# Altium footprint library 8channel.PcbLib: 84 footprints (part 4 of 6)
Each footprint in its own frame and in the unit in brackets; x right, y up, seen from the top. Pads: shape width x height; smd on the part's side, far side on the other; paste and mask are expansions set on the pad; w line width, h text height; cw(c..) or ccw(c..) is an arc to the next point about the centre after c.
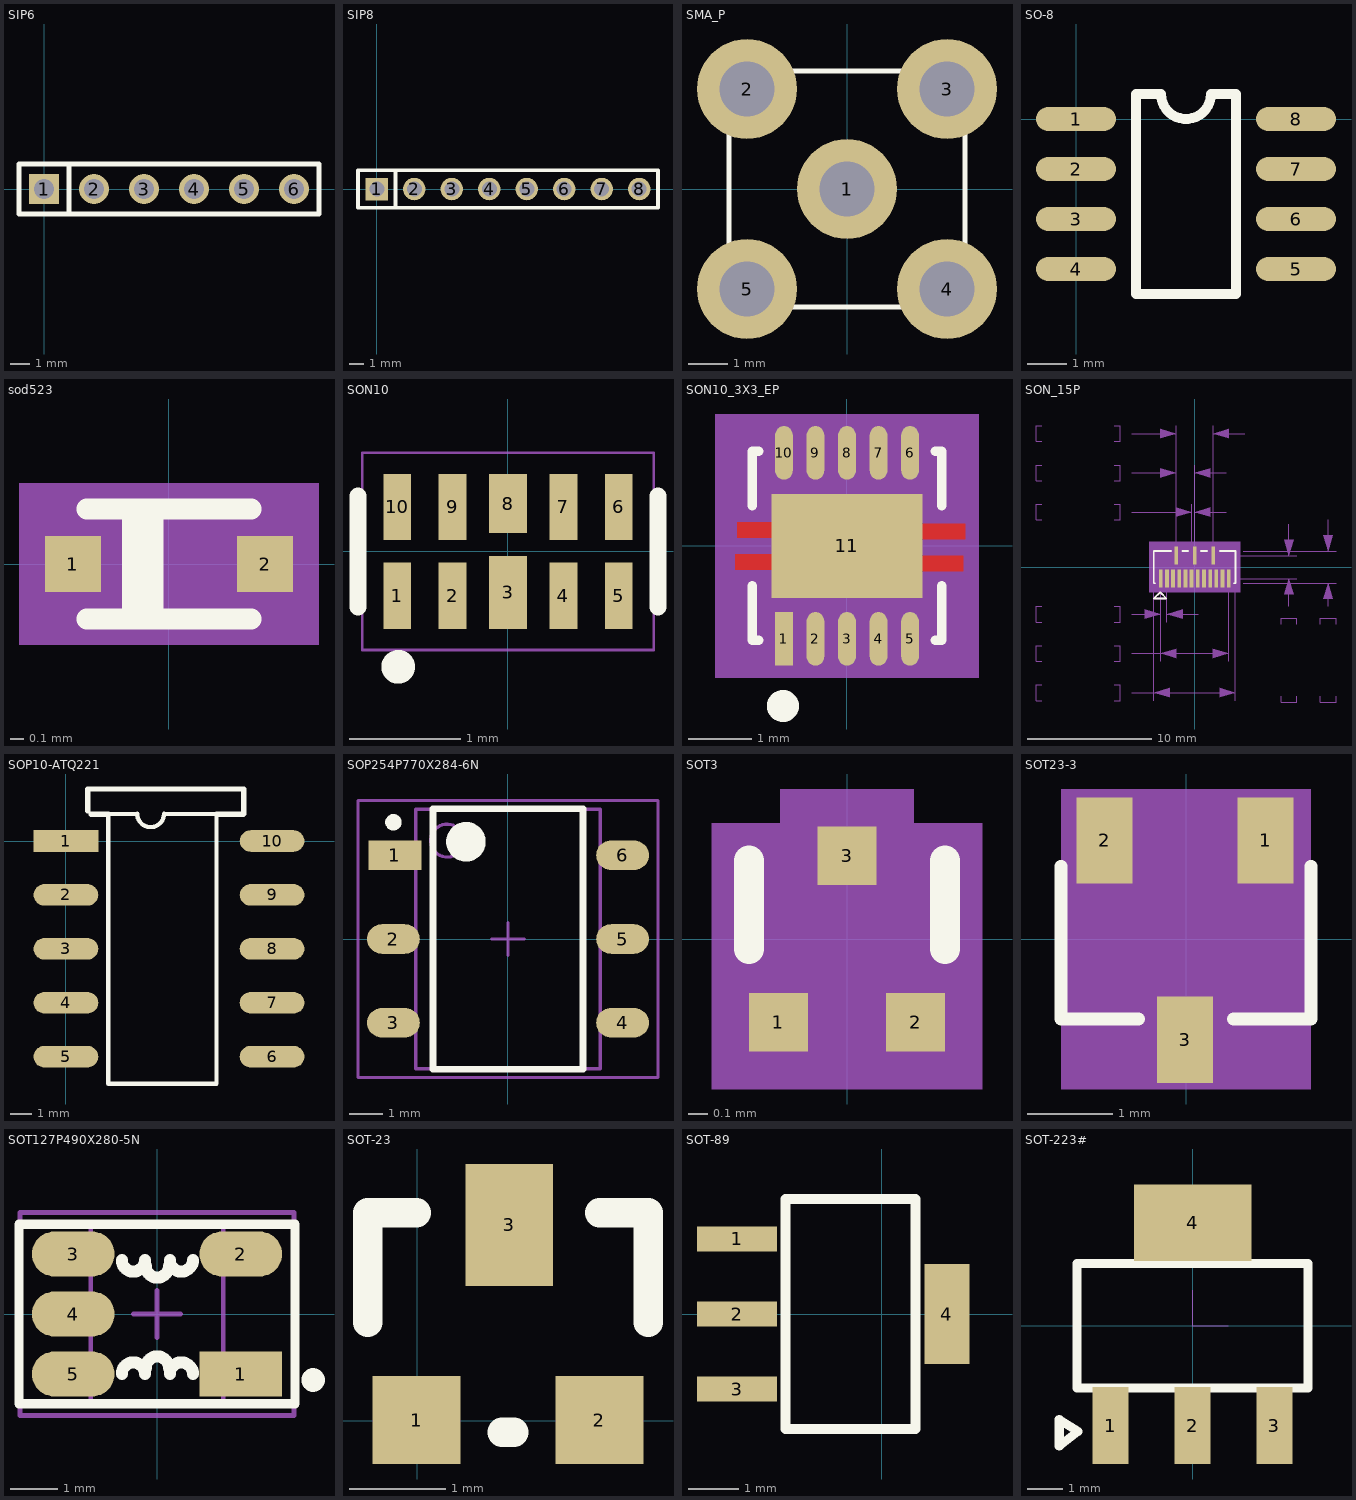
[diagram p3: the footprints below, top view; thin cyan lines are the x and y axes]

## SIP6 [mil] "pitch=2.54"
pads (6):
  rect 60x60 hole 40: 1(0,0)
  round 60 hole 40: 2(100,0) 3(200,0) 4(300,0) 5(400,0) 6(500,0)
Top Overlay:
  lines w10: 50,-50 50,50 ; -50,-50 550,-50 550,50 -50,50 -50,-50

## SIP8 [mil] "pitch=2.54"
pads (8):
  rect 60x60 hole 40: 1(0,0)
  round 60 hole 40: 2(100,0) 3(200,0) 4(300,0) 5(400,0) 6(500,0) 7(600,0) 8(700,0)
Top Overlay:
  lines w10: 50,-50 50,50 ; -50,-50 -50,50 750,50 750,-50 -50,-50

## SMA_P [mm]
pads (5):
  round 2.54 hole 1.4: 1(0,0) 2(-2.54,2.54) 3(2.54,2.54) 4(2.54,-2.54) 5(-2.54,-2.54)
Top Overlay:
  lines w0.127: -3,-3 -3,3 3,3 3,-3 -3,-3
Mechanical 9:
  text "1" at -0.254,0 h0.76
  text "3" at 2.286,2.54 h0.76
  text "2" at -2.794,2.54 h0.76
  text "4" at 2.286,-2.54 h0.76
  text "5" at -2.794,-2.54 h0.76

## SO-8 [mil]
height 230
pads (8):
  oval 80x24 smd: 1(0,0) 2(0,-50) 3(0,-100) 4(0,-150) 5(220,-150) 6(220,-100) 7(220,-50) 8(220,0)
Top Overlay:
  lines w10: 60,-175 160,-175 160,25 135,25 cw(c110,25) 85,25 60,25 60,-175

## sod523 [mil] "BAS16XV2T1G,Pin1-Negative"
height 39.37
pads (2):
  rect 16x16 smd: 1(-27.56,0) 2(27.56,0)
Top Overlay:
  lines w6: -23.62,-15.75 23.62,-15.75 ; -23.62,15.75 23.62,15.75 ; -10.56,-15.75 -10.56,15.75 ; -4.56,-15.75 -4.56,15.75
Mechanical 10:
  text "2" at 49,-2 h30
  text "1" at -27.56,10 h30
Mechanical 11:
  text ".Designator" at 0,0 h30
Mechanical 12:
  region: -43.06,-23.25 43.06,-23.25 43.06,23.25 -43.06,23.25
3D body: height 150, standoff 0, extent -43.06,-23.25 43.06,23.25

## SON10 [mm] "SON10"
pads (10):
  rect 0.25x0.598 smd: 1(-1,-0.401) 2(-0.5,-0.401) 4(0.5,-0.401) 5(1,-0.401) 6(1,0.401) 7(0.5,0.401) 9(-0.5,0.401) 10(-1,0.401)
  rect 0.344x0.661 smd: 3(0,-0.37)
  rect 0.344x0.536 smd: 8(0,0.432)
Top Overlay:
  circle w0.152: c-0.991,-1.041 r0.076
  lines w0.152: -1.354,-0.5 -1.354,0.5 ; 1.354,-0.5 1.354,0.5
Mechanical 10:
  text "8" at 0,0.686 h0.76
  text "3" at 0,-0.116 h0.76
  text "7" at 0.5,0.655 h0.76
  text "4" at 0.5,-0.147 h0.76
  text "10" at -1,0.909 h0.76
  text "1" at -1,-0.147 h0.76
  text "9" at -0.5,0.655 h0.76
  text "2" at -0.5,-0.147 h0.76
  text "6" at 1,0.655 h0.76
  text "5" at 1,-0.147 h0.76
Mechanical 12:
  lines w0.025: -1.315,-0.891 1.316,-0.891 1.316,0.891 -1.315,0.891 -1.315,-0.891

## SON10_3X3_EP [mm] "SON10_3X3"
pads (11):
  rect 0.28x0.85 smd: 1(-1,-1.475)
  oval 0.28x0.85 smd: 2(-0.5,-1.475) 3(0,-1.475) 4(0.5,-1.475) 5(1,-1.475) 6(1,1.475) 7(0.5,1.475) 8(0,1.475) 9(-0.5,1.475) 10(-1,1.475)
  rect 2.4x1.65 smd: 11(0,0)
Top Layer:
  region: 1.88,0.356 1.021,0.356 1.021,0.102 1.88,0.102
  region: 1.85,-0.152 0.991,-0.152 0.991,-0.406 1.85,-0.406
  region: -0.919,-0.127 -1.778,-0.127 -1.778,-0.382 -0.919,-0.382
  region: -0.889,0.381 -1.748,0.381 -1.748,0.126 -0.889,0.126
Top Overlay:
  circle w0.254: c-1.016,-2.54 r0.127
  lines w0.152: -1.5,-0.635 -1.5,-1.5 -1.397,-1.5 ; -1.5,0.635 -1.5,1.5 -1.397,1.5 ; 1.397,-1.5 1.5,-1.5 1.5,-0.635 ; 1.397,1.5 1.5,1.5 1.5,0.635
Top Paste:
  rectangle: 1.041,0.102 1.905,0.381
  rectangle: 1.037,-0.406 1.9,-0.127
  rectangle: -1.783,-0.382 -0.919,-0.102
  rectangle: -1.753,0.126 -0.889,0.406
Top Solder:
  rectangle: 0.991,0.026 2.007,0.433
  rectangle: 0.991,-0.456 2.007,-0.05
  rectangle: -1.905,-0.432 -0.889,-0.025
  rectangle: -1.905,0.051 -0.889,0.457
Mechanical 10:
  text "10" at -1,1.983 h0.76
  text "9" at -0.5,1.729 h0.76
  text "4" at 0.5,-1.221 h0.76
  text "8" at 0,1.729 h0.76
  text "3" at 0,-1.221 h0.76
  text "7" at 0.5,1.729 h0.76
  text "2" at -0.5,-1.221 h0.76
  text "1" at -1,-1.221 h0.76
  text "5" at 1,-1.221 h0.76
  text "6" at 1,1.729 h0.76
  text "11" at 0,0.508 h0.76
Mechanical 12:
  region: -2.09,2.09 -2.09,-2.09 2.09,-2.09 2.09,2.09
3D body: height 3.81, standoff 0, extent -2.032,-2.09 2.149,2.09

## SON_15P [mil] "SON_15P"
pads (15):
  rect 12x57 smd: 1(-108.27,-36.42) 2(-88.58,-36.42) 3(-68.9,-36.42) 4(-49.21,-36.42) 5(-29.53,-36.42) 6(-9.84,-36.42) 7(9.84,-36.42) 8(29.53,-36.42) 9(49.21,-36.42) 10(68.9,-36.42) 11(88.58,-36.42) 12(108.27,-36.42) 13(59.06,36.42) 14(0,36.42) 15(-59.06,36.42)
Top Overlay:
  lines w5: -125,-51.18 -129.92,-51.18 -129.92,51.18 -75,51.18 ; -40,51.18 -20,51.18 ; 20,51.18 40,51.18 ; 80,51.18 129.92,51.18 129.92,-51.18 125,-51.18 ; -130,-100 -90,-100 -110,-80 -130,-100
Mechanical 10:
  text "6" at -9.84,-46.42 h30
  text "4" at -49.21,-46.42 h30
  text "3" at -68.9,-46.42 h30
  text "1" at -108.27,-46.42 h30
  text "9" at 49.21,-46.42 h30
  text "7" at 9.84,-46.42 h30
  text "12" at 108.27,-56.42 h30
  text "10" at 68.9,-56.42 h30
  text "14" at 0,16.42 h30
  text "15" at -59.06,16.42 h30
  text "13" at 59.06,16.42 h30
  text "2" at -88.58,-46.42 h30
  text "5" at -29.53,-46.42 h30
  text "8" at 29.53,-46.42 h30
  text "11" at 88.58,-56.42 h30
Mechanical 12:
  region: -145,80 145,80 145,-80 -145,-80
Mechanical 13:
  lines w5: -130,-100 -90,-100 -110,-80 -130,-100 ; -129.92,-51.18 129.92,-51.18 129.92,51.18 -129.92,51.18 -129.92,-51.18
Mechanical 16:
  pour cut-out: -109.06,410 -59.06,425 -109.06,440
  pour cut-out: 109.06,440 59.06,425 109.06,410
  pour cut-out: -109.06,285 -59.06,300 -109.06,315
  pour cut-out: 50,315 0,300 50,285
  pour cut-out: -59.84,160 -9.84,175 -59.84,190
  pour cut-out: 50,190 0,175 50,160
  pour cut-out: -79.92,-385 -129.92,-400 -79.92,-415
  pour cut-out: 79.92,-415 129.92,-400 79.92,-385
  pour cut-out: -58.27,-260 -108.27,-275 -58.27,-290
  pour cut-out: 58.27,-290 108.27,-275 58.27,-260
  pour cut-out: -158.27,-165 -108.27,-150 -158.27,-135
  pour cut-out: -38.58,-135 -88.58,-150 -38.58,-165
  pour cut-out: 440,-101.18 425,-51.18 410,-101.18
  pour cut-out: 410,101.18 425,51.18 440,101.18
  pour cut-out: 315,-86.42 300,-36.42 285,-86.42
  pour cut-out: 285,86.42 300,36.42 315,86.42
  lines w1: -486.22,-425 -505.31,-425 -505.31,-375 -486.22,-375 ; -486.22,-300 -505.31,-300 -505.31,-250 -486.22,-250 ; -486.22,-175 -505.31,-175 -505.31,-125 -486.22,-125 ; -486.22,150 -505.31,150 -505.31,200 -486.22,200 ; -486.22,275 -505.31,275 -505.31,325 -486.22,325 ; -486.22,400 -505.31,400 -505.31,450 -486.22,450 ; -256.31,-425 -237.22,-425 -237.22,-375 -256.31,-375 ; -256.31,-300 -237.22,-300 -237.22,-250 -256.31,-250 ; -256.31,-175 -237.22,-175 -237.22,-125 -256.31,-125 ; -256.31,150 -237.22,150 -237.22,200 -256.31,200 ; -256.31,275 -237.22,275 -237.22,325 -256.31,325 ; -256.31,400 -237.22,400 -237.22,450 -256.31,450 ; -199.72,-400 -129.92,-400 129.92,-400 ; -199.72,-275 -108.27,-275 108.27,-275 ; -199.72,-150 -108.27,-150 ; -199.72,175 -9.84,175 ; -199.72,300 -59.06,300 ; -199.72,425 -59.06,425 ; -129.92,-425 -129.92,-76.18 ; -108.27,-300 -108.27,-61.42 -108.27,-175 ; -88.58,-175 -88.58,-61.42 ; -88.58,-150 11.42,-150 ; -59.06,325 -59.06,61.42 -59.06,450 ; -9.84,-11.42 -9.84,200 ; 0,175 100,175 ; 0,200 0,61.42 0,325 ; 0,300 100,300 ; 59.06,61.42 59.06,450 ; 59.06,425 159.06,425 ; 84.06,36.42 325,36.42 ; 108.27,-300 108.27,-61.42 ; 129.92,-425 129.92,-76.18 ; 133.27,-36.42 325,-36.42 ; 154.92,-51.18 450,-51.18 ; 154.92,51.18 450,51.18 ; 275,-411.22 275,-430.31 325,-430.31 325,-411.22 ; 275,-181.31 275,-162.22 325,-162.22 325,-181.31 ; 300,-124.72 300,-36.42 ; 300,36.42 300,136.42 ; 400,-411.22 400,-430.31 450,-430.31 450,-411.22 ; 400,-181.31 400,-162.22 450,-162.22 450,-181.31 ; 425,-124.72 425,-51.18 ; 425,51.18 425,151.18
  text "3.00" at -467.12,400 h30
  text ".118" at -760,395 h30
  text "1.50" at -467.12,275 h30
  text ".059" at -760.82,275 h30
  text "0.25" at -467.12,150 h30
  text ".010" at -760.82,150 h30
  text "6.60" at -467.12,-425 h30
  text ".260" at -760.82,-425 h30
  text "5.50" at -467.12,-300 h30
  text "0.50" at -467.12,-175 h30
  text "2.60" at 450,-392.12 h30
  text ".102" at 370,-695 h30
  text ".073" at 390,-680 h30
  text "Created by: MN 8/20/10" at -476.45,733.33 h30
3D body: height 150, standoff 0, extent -145,-80 145,80

## SOP10-ATQ221 [mm]
pads (10):
  rect 3x1 smd: 1(0,0)
  oval 3x1 smd: 2(0,-2.5) 3(0,-5) 4(0,-7.5) 5(0,-10) 6(9.56,-10) 7(9.56,-7.5) 8(9.56,-5) 9(9.56,-2.5) 10(9.56,0)
Top Overlay:
  lines w0.2: 3.302,1.25 1.96,1.25 1.96,-11.25 6.985,-11.25 6.985,1.25 4.572,1.25 ; 3.302,1.27 ccw(c3.927,1.27) 4.552,1.27
  lines w0.254: 1.016,1.397 1.016,2.194 1.016,2.413 8.255,2.413 8.255,1.27 8.235,1.25 6.985,1.25 ; 1.163,1.25 1.96,1.25

## SOP254P770X284-6N [mm] "SOP, 6-Leads, Body 7.9x5.6mm (max), Pitch 2.54mm, IPC Medium Density"
height 2.84
pads (6):
  rect 1.6x0.9 smd: 1(-3.429,2.54)
  oval 1.6x0.9 smd: 2(-3.475,0) 3(-3.475,-2.54) 4(3.475,-2.54) 5(3.475,0) 6(3.475,2.54)
Top Overlay:
  circle w0.25: c-3.475,3.54 r0.125
  circle w0.6: c-1.275,2.95 r0.3
  lines w0.2: -2.275,-3.95 -2.275,3.95 2.275,3.95 2.275,-3.95 -2.275,-3.95
Mechanical 13:
  circle w0.1: c-1.845,2.985 r0.5
  lines w0.1: -2.795,-3.935 -2.795,3.935 2.795,3.935 2.795,-3.935 -2.795,-3.935
Mechanical 15:
  lines w0.1: -0.5,0 0.5,0 ; 0,-0.5 0,0.5 ; -4.55,-4.2 -4.55,4.2 4.55,4.2 4.55,-4.2 -4.55,-4.2
3D body: height 2.84, standoff 0.1, extent -2.795,-3.935 2.795,3.935

## SOT3 [mm] "SOT3"
pads (3):
  rect 0.3x0.3 smd: 1(-0.35,-0.425) 2(0.35,-0.425) 3(0,0.425)
Top Overlay:
  lines w0.152: -0.5,-0.051 -0.5,0.4 ; 0.5,-0.051 0.5,0.4
Mechanical 10:
  text "3" at 0,0.679 h0.76
  text "1" at -0.35,-0.171 h0.76
  text "2" at 1.27,-0.127 h0.76
Mechanical 12:
  region: 0.691,0.591 0.691,-0.765 -0.691,-0.765 -0.691,0.591 -0.34,0.591 -0.34,0.765 0.34,0.765 0.34,0.591
3D body: height 3.81, standoff 0, extent -0.691,-0.765 0.691,0.765

## SOT23-3 [mil] "SOT23-3,NPN"
pads (3):
  rect 26x40 smd: 1(37,45.77) 2(-37.8,45.77) 3(-0.4,-46.75)
Top Overlay:
  lines w6: -58,33.77 -58,-37.23 -22,-37.23 ; 22,-37.23 58,-37.23 58,33.77
Mechanical 10:
  text "2" at -47.8,45.77 h30
  text "1" at 27,45.77 h30
  text "3" at -10.4,-46.75 h30
Mechanical 16:
  region: 58,69.63 -58,69.63 -58,-69.63 58,-69.63
3D body: height 150, standoff 0, extent -58,-69.63 58,69.63

## SOT127P490X280-5N [mm] "SOT23, 5-Leads, Body 3.8x5.0mm (max), Pitch 1.27mm, IPC Medium Density"
height 2.8
pads (5):
  rect 1.75x0.95 smd: 1(1.775,-1.27)
  oval 1.75x0.95 smd: 2(1.775,1.27) 3(-1.775,1.27) 4(-1.775,0) 5(-1.775,-1.27)
Top Overlay:
  circle w0.25: c3.304,-1.397 r0.125
  lines w0.2: -2.921,-1.9 -2.921,1.9 2.921,1.9 2.921,-1.9 -2.921,-1.9
  lines w0.254: -0.746,-1.27 cw(c-0.5,-1.27) -0.254,-1.27 ; -0.746,1.143 ccw(c-0.5,1.143) -0.254,1.143 ; -0.238,-1.143 cw(c0.008,-1.143) 0.254,-1.143 ; -0.238,1.016 ccw(c0.008,1.016) 0.254,1.016 ; 0.27,-1.27 cw(c0.516,-1.27) 0.762,-1.27 ; 0.27,1.143 ccw(c0.516,1.143) 0.762,1.143
Mechanical 13:
  lines w0.1: -1.4,-1.9 1.4,-1.9 1.4,1.9 -1.4,1.9 -1.4,-1.9
Mechanical 15:
  lines w0.1: -0.5,0 0.5,0 ; 0,-0.5 0,0.5 ; -2.9,-2.15 2.9,-2.15 2.9,2.15 -2.9,2.15 -2.9,-2.15
3D body: height 2.8, standoff 0.5, extent -1.4,-1.9 1.4,1.9

## SOT-23 [mil]
pads (3):
  rect 36x36 smd: 1(-0.25,0.3) 2(74.75,0.3)
  rect 36x50 smd: 3(37.75,80.3)
Top Overlay:
  lines w12: -20.25,40.3 -20.25,85.3 -0.25,85.3 ; 34.75,-4.7 39.75,-4.7 ; 74.75,85.3 94.75,85.3 94.75,40.3

## SOT-89 [mm] "SOT-89,small package of SOT-23"
height 3
pads (4):
  rect 1.6x0.5 smd: 1(-2.889,1.5) 2(-2.889,0) 3(-2.889,-1.5)
  rect 0.9x2 smd: 4(1.3,0)
Top Overlay:
  lines w0.2: -1.924,-2.3 -1.924,2.3 0.676,2.3 0.676,-2.3 -1.924,-2.3

## SOT-223# [mil]
pads (4):
  rect 40x85 smd: 1(-90.55,-110.24) 2(0,-110.24) 3(90.55,-110.24)
  rect 130x85 smd: 4(0,114.17)
Top Overlay:
  lines w10: -147.44,-132.85 -147.44,-103.64 -126.87,-116.66 -147.44,-132.85 ; -127.95,-68.9 127.95,-68.9 127.95,68.9 -127.95,68.9 -127.95,-68.9
Mechanical 16:
  lines w1: 0,39.37 0,0 39.37,0 ; -105.12,-137.8 -105.12,-108.27 -75.98,-108.27 -75.98,-137.8 -105.12,-137.8 ; -59.06,108.27 -59.06,137.8 59.06,137.8 59.06,108.27 -59.06,108.27 ; -14.57,-137.8 -14.57,-108.27 14.57,-108.27 14.57,-137.8 -14.57,-137.8 ; 75.98,-137.8 75.98,-108.27 105.12,-108.27 105.12,-137.8 75.98,-137.8
3D body "SOT-223_MP04A.STEP": height 66.93, standoff 0, extent -125.98,-137.8 129.92,136.22